# Altium footprint library BZX55B8V2.PcbLib: 1 footprints
Each footprint in its own frame and in the unit in brackets; x right, y up, seen from the top. Pads: shape width x height; smd on the part's side, far side on the other; paste and mask are expansions set on the pad; w line width, h text height; cw(c..) or ccw(c..) is an arc to the next point about the centre after c.
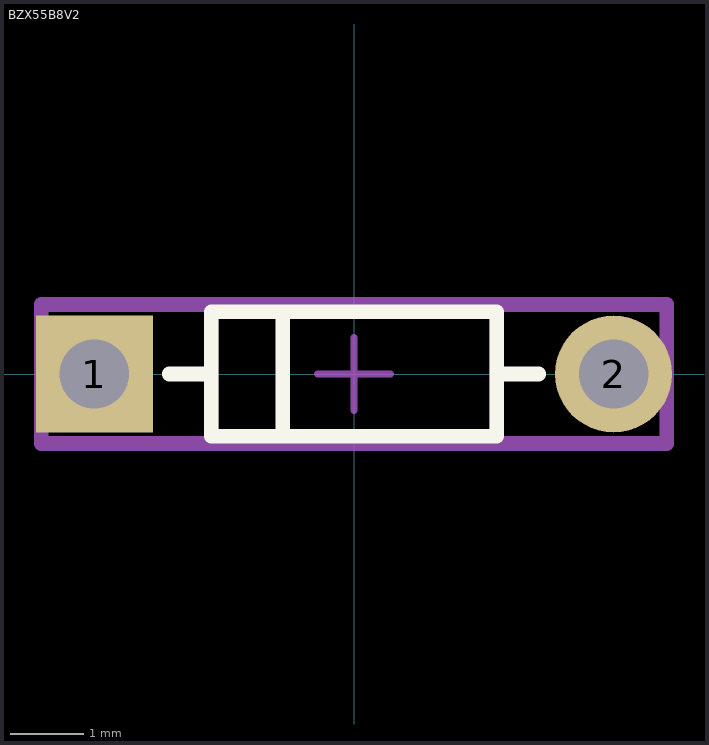
[diagram p0: the footprint, top view; thin cyan lines are the x and y axes]

## BZX55B8V2 [mm]
pads (2):
  rect 1.6x1.6 hole 0.95 paste-1000 mask+0: 1(-3.55,0)
  round 1.6 hole 0.95 paste-1000 mask+0: 2(3.55,0)
Top Overlay:
  lines w0.2: -2.525,0 -1.95,0 ; -0.975,-0.78 -0.975,0.78 ; 1.95,0 2.525,0 ; -1.95,-0.85 -1.95,0.85 1.95,0.85 1.95,-0.85 -1.95,-0.85
Top 3D Body:
  lines w0.2: -1.95,-0.85 -1.95,0.85 1.95,0.85 1.95,-0.85 -1.95,-0.85
Top Assembly:
  lines w0.2: -4.275,-0.95 -4.275,0.95 4.275,0.95 4.275,-0.95 -4.275,-0.95
  text ".Designator" at 0,0.188 h1
Top Component Center:
  lines w0.1: -0.5,0 0.5,0 ; 0,-0.5 0,0.5
Top Courtyard:
  lines w0.2: -4.275,-0.95 -4.275,0.95 4.275,0.95 4.275,-0.95 -4.275,-0.95
3D body "Diode_Vishay_TZX3V6A-TR_eec.STEP": height 4.7, standoff -1, extent -3.8,-0.85 3.8,0.85